# EAGLE library part SIR404DP (library STAC)
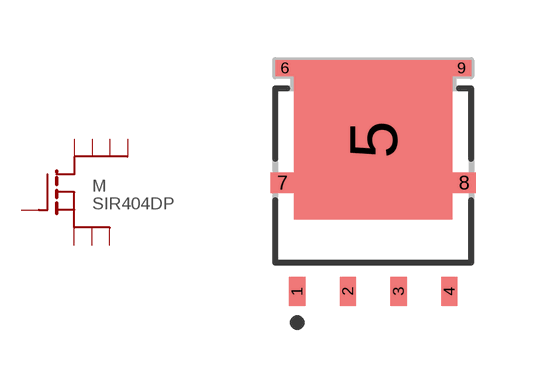
[diagram p7: symbol with the pads of TRANS_SQJ461EP-T1-GE3; footprint TRANS_SQJ461EP-T1-GE3]

Designator prefix M

## SIR404DP  [TRANS_SQJ461EP-T1-GE3]
1  S
2  S
3  S
4  G
5  D
6  D
7  D
8  D

## Footprint TRANS_SQJ461EP-T1-GE3 (pad centres in mm)
smd 0.41 x 0.72: 1 -1.905,-2.715; 2 -0.635,-2.715; 3 0.635,-2.715; 4 1.905,-2.715
smd 3.96 x 3.99: 5 0,1.08
smd 0.47 x 0.41: 6 -2.215,2.87; 9 2.215,2.87
smd 0.585 x 0.51: 7 -2.272,0; 8 2.272,0